# Altium schematic symbol library RC0805JR-0768KL.SchLib: 1 symbol
Pins are listed as number, name and electrical type; pins without a type are passive.

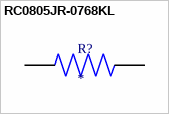
[diagram p0: symbol RC0805JR-0768KL]

## RC0805JR-0768KL
designator R?
68 kOhms Â±5% 0.125W, 1/8W Chip Resistor 0805 (2012 Metric) Moisture Resistant Thick Film; MF: Yageo; MP: RC0805JR-0768KL; SnapEDA_Link: https://www.snapeda.com/parts/RC0805JR-0768KL/Yageo/view-part/?ref=snap; Package: 2012 Yageo; Value: *; Check_prices: https://www.snapeda.com/parts/RC0805JR-0768KL/Yageo/view-part/?ref=eda
footprint RESC2012X60N
pins: 1, 2